# Altium footprint library DDR1-SODIMM-CARD-EDGE.PcbLib: 1 footprints
Each footprint in its own frame and in the unit in brackets; x right, y up, seen from the top. Pads: shape width x height; smd on the part's side, far side on the other; paste and mask are expansions set on the pad; w line width, h text height; cw(c..) or ccw(c..) is an arc to the next point about the centre after c.
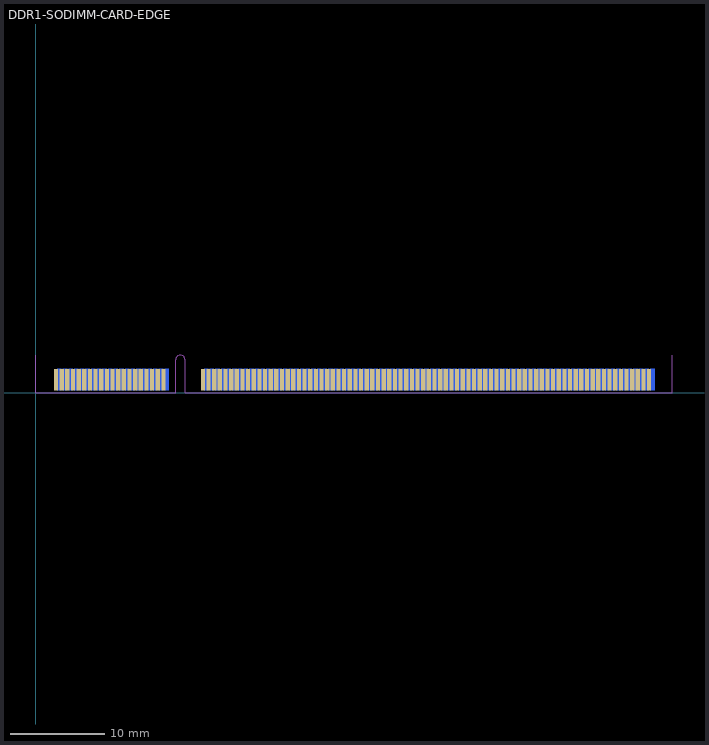
[diagram p0: the footprint, top view; thin cyan lines are the x and y axes]

## DDR1-SODIMM-CARD-EDGE [mm] "DDR1 SODIMM (2.5V) Card Edge"
pads (200):
  rect 0.45x2.3 smd: 1(2.15,1.4) 3(2.75,1.4) 5(3.35,1.4) 7(3.95,1.4) 9(4.55,1.4) 11(5.15,1.4) 13(5.75,1.4) 15(6.35,1.4) 17(6.95,1.4) 19(7.55,1.4) 21(8.15,1.4) 23(8.75,1.4) 25(9.35,1.4) 27(9.95,1.4) 29(10.55,1.4) 31(11.15,1.4) 33(11.75,1.4) 35(12.35,1.4) 37(12.95,1.4) 39(13.55,1.4) 41(17.75,1.4) 43(18.35,1.4) 45(18.95,1.4) 47(19.55,1.4) 49(20.15,1.4) 51(20.75,1.4) 53(21.35,1.4) 55(21.95,1.4) 57(22.55,1.4) 59(23.15,1.4) 61(23.75,1.4) 63(24.35,1.4) 65(24.95,1.4) 67(25.55,1.4) 69(26.15,1.4) 71(26.75,1.4) 73(27.35,1.4) 75(27.95,1.4) 77(28.55,1.4) 79(29.15,1.4) 81(29.75,1.4) 83(30.35,1.4) 85(30.95,1.4) 87(31.55,1.4) 89(32.15,1.4) 91(32.75,1.4) 93(33.35,1.4) 95(33.95,1.4) 97(34.55,1.4) 99(35.15,1.4) 101(35.75,1.4) 103(36.35,1.4) 105(36.95,1.4) 107(37.55,1.4) 109(38.15,1.4) 111(38.75,1.4) 113(39.35,1.4) 115(39.95,1.4) 117(40.55,1.4) 119(41.15,1.4) 121(41.75,1.4) 123(42.35,1.4) 125(42.95,1.4) 127(43.55,1.4) 129(44.15,1.4) 131(44.75,1.4) 133(45.35,1.4) 135(45.95,1.4) 137(46.55,1.4) 139(47.15,1.4) 141(47.75,1.4) 143(48.35,1.4) 145(48.95,1.4) 147(49.55,1.4) 149(50.15,1.4) 151(50.75,1.4) 153(51.35,1.4) 155(51.95,1.4) 157(52.55,1.4) 159(53.15,1.4) 161(53.75,1.4) 163(54.35,1.4) 165(54.95,1.4) 167(55.55,1.4) 169(56.15,1.4) 171(56.75,1.4) 173(57.35,1.4) 175(57.95,1.4) 177(58.55,1.4) 179(59.15,1.4) 181(59.75,1.4) 183(60.35,1.4) 185(60.95,1.4) 187(61.55,1.4) 189(62.15,1.4) 191(62.75,1.4) 193(63.35,1.4) 195(63.95,1.4) 197(64.55,1.4) 199(65.15,1.4)
  rect 0.45x2.3 smd far side: 2(2.5,1.4) 4(3.1,1.4) 6(3.7,1.4) 8(4.3,1.4) 10(4.9,1.4) 12(5.5,1.4) 14(6.1,1.4) 16(6.7,1.4) 18(7.3,1.4) 20(7.9,1.4) 22(8.5,1.4) 24(9.1,1.4) 26(9.7,1.4) 28(10.3,1.4) 30(10.9,1.4) 32(11.5,1.4) 34(12.1,1.4) 36(12.7,1.4) 38(13.3,1.4) 40(13.9,1.4) 42(18.1,1.4) 44(18.7,1.4) 46(19.3,1.4) 48(19.9,1.4) 50(20.5,1.4) 52(21.1,1.4) 54(21.7,1.4) 56(22.3,1.4) 58(22.9,1.4) 60(23.5,1.4) 62(24.1,1.4) 64(24.7,1.4) 66(25.3,1.4) 68(25.9,1.4) 70(26.5,1.4) 72(27.1,1.4) 74(27.7,1.4) 76(28.3,1.4) 78(28.9,1.4) 80(29.5,1.4) 82(30.1,1.4) 84(30.7,1.4) 86(31.3,1.4) 88(31.9,1.4) 90(32.5,1.4) 92(33.1,1.4) 94(33.7,1.4) 96(34.3,1.4) 98(34.9,1.4) 100(35.5,1.4) 102(36.1,1.4) 104(36.7,1.4) 106(37.3,1.4) 108(37.9,1.4) 110(38.5,1.4) 112(39.1,1.4) 114(39.7,1.4) 116(40.3,1.4) 118(40.9,1.4) 120(41.5,1.4) 122(42.1,1.4) 124(42.7,1.4) 126(43.3,1.4) 128(43.9,1.4) 130(44.5,1.4) 132(45.1,1.4) 134(45.7,1.4) 136(46.3,1.4) 138(46.9,1.4) 140(47.5,1.4) 142(48.1,1.4) 144(48.7,1.4) 146(49.3,1.4) 148(49.9,1.4) 150(50.5,1.4) 152(51.1,1.4) 154(51.7,1.4) 156(52.3,1.4) 158(52.9,1.4) 160(53.5,1.4) 162(54.1,1.4) 164(54.7,1.4) 166(55.3,1.4) 168(55.9,1.4) 170(56.5,1.4) 172(57.1,1.4) 174(57.7,1.4) 176(58.3,1.4) 178(58.9,1.4) 180(59.5,1.4) 182(60.1,1.4) 184(60.7,1.4) 186(61.3,1.4) 188(61.9,1.4) 190(62.5,1.4) 192(63.1,1.4) 194(63.7,1.4) 196(64.3,1.4) 198(64.9,1.4) 200(65.5,1.4)
Top Solder:
  region: 0,2.65 0,0 14.85,0 14.85,2.65
  region: 15.85,2.65 15.85,0 67.6,0 67.6,2.65
Bottom Solder:
  region: 0,2.65 0,0 14.85,0 14.85,2.65
  region: 15.85,2.65 15.85,0 67.6,0 67.6,2.65
Mechanical 1:
  lines w0.05: 0,4 0,0 14.85,0 14.85,3.5 cw(c15.35,3.5) 15.85,3.5 15.85,0 67.6,0 67.6,4